# Altium footprint library Footprints.PcbLib: 77 footprints (part 4 of 5)
Each footprint in its own frame and in the unit in brackets; x right, y up, seen from the top. Pads: shape width x height; smd on the part's side, far side on the other; paste and mask are expansions set on the pad; w line width, h text height; cw(c..) or ccw(c..) is an arc to the next point about the centre after c.
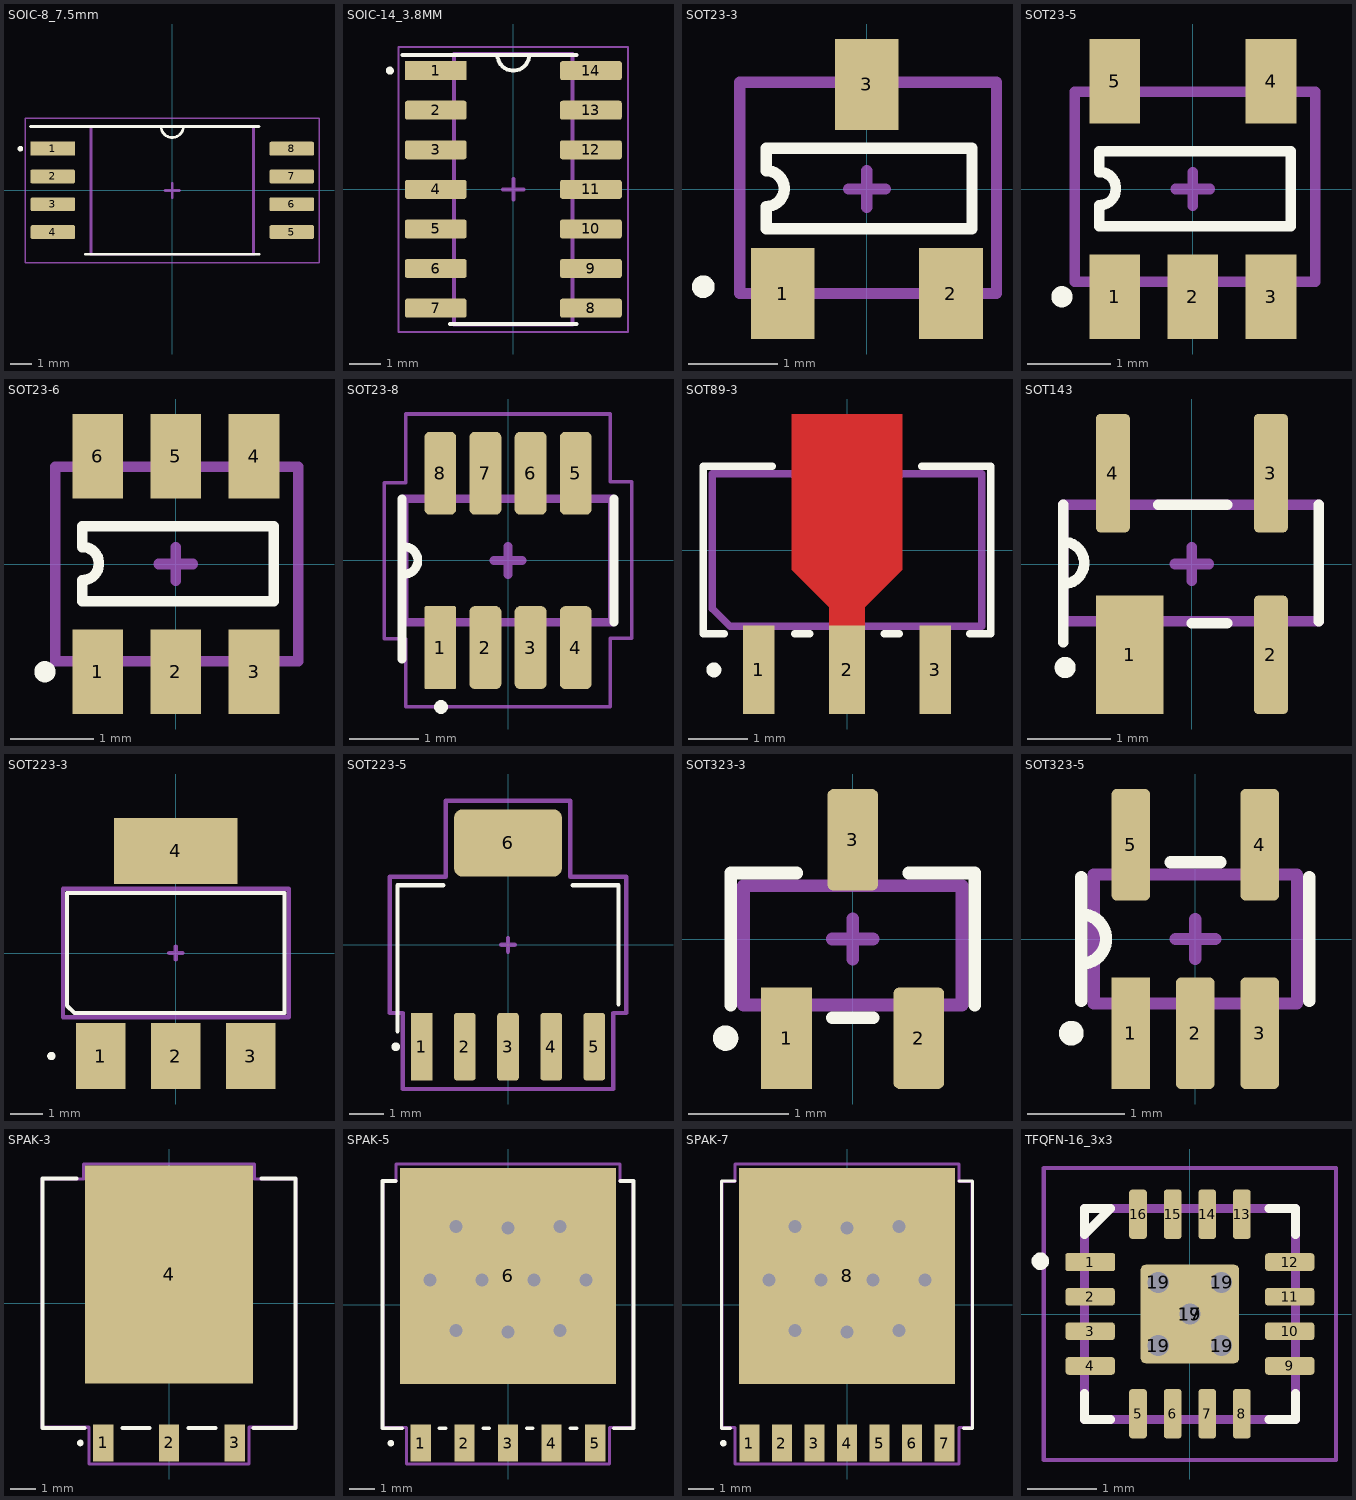
[diagram p3: the footprints below, top view; thin cyan lines are the x and y axes]

## SOIC-8_7.5mm [mil]
pads (9):
  rect 80x25 smd: 1(-215,75)
  rrect25% 80x25 smd: 2(-215,25) 3(-214.5,-25) 4(-214.5,-75) 5(215,-75) 6(215,-25) 7(215,25) 8(215,75)
  round 7.5 on Mech8: ""(-215,75)
Top Overlay:
  circle w5: c-273,75 r2.5
  lines w5: -255,115 156,115 ; -156,-115 156,-115 ; -20,115 ccw(c0,115) 20,115
Top Designator:
  text "'.Comment'" at -100,-45 h20
  text ".Designator" at -99.97,-6.66 h20
Top Assembly (Mech8):
  lines w5: -13,0 13,0 ; 0,-13 0,13 ; -146,-115 -146,115 146,115 146,-115 -146,-115
Top Courtyard:
  lines w2.5: -264,-130 -264,130 264,130 264,-130 -264,-130
3D body "AMC1100DWVR.STEP": height 110.74, standoff 0.5, extent -226.38,-115.16 226.38,115.16

## SOIC-14_3.8MM [mil]
pads (15):
  rect 78x24 smd: 1(-98,150)
  rrect25% 78x24 smd: 2(-98,100) 3(-98,50) 4(-98,0) 5(-98,-50) 6(-98,-100) 7(-98,-150) 8(98,-150) 9(98,-100) 10(98,-50) 11(98,0) 12(98,50) 13(98,100) 14(98,150)
  round 7.5 on Mech8: ""(-98,150)
Top Overlay:
  circle w5: c-156,150 r2.5
  lines w5: -140,170 80,170 ; -80,-170 80,-170 ; -20,170 ccw(c0,170) 20,170
Top Designator:
  text "'.Comment'" at -100,-45 h20
  text ".Designator" at -99.97,-6.66 h20
Top Assembly (Mech8):
  lines w5: -13,0 13,0 ; 0,-13 0,13 ; -75,-171 75,-171 75,171 -75,171 -75,-171
Top Courtyard:
  lines w2.5: -145,-180 145,-180 145,180 -145,180 -145,-180
3D body "TL064IDR.STEP": height 69.4, standoff 0.5, extent -118.11,-170.28 118.11,170.28

## SOT23-3 [mil]
pads (4):
  rect 28x40 smd: 1(-37,-46) 2(37,-46) 3(0,46)
  round 7.5 on Mech8: ""(-37,-46)
Top Overlay:
  circle w5: c-72,-43 r2.5
  lines w5: -44.28,-17.54 46.28,-17.54 46.28,17.9 -44.28,17.9 -44.28,8.06 cw(c-44.28,0.18) -44.28,-7.69 -44.28,-17.54
Top Designator:
  text "'.Designator'" at -49,12.16 h20
  text "'.Comment'" at -48,-39 h20
Top Assembly (Mech8):
  lines w5: -8,0 8,0 ; 0,-8 0,8 ; -56,-46 57,-46 57,47 -56,47 -56,-46
3D body "User Library-sot-3p290x130ll237h100.step": height 39.57, standoff 0, extent -57.09,-46.64 57.08,46.66

## SOT23-5 [mil] "SOT143-4 as used in SP0503BAHTG"
pads (6):
  rect 24x40 smd: 1(-37,-51) 2(0,-51) 3(37,-51) 4(37,51) 5(-37,51)
  round 7.5 on Mech8: ""(-37,-51)
Top Overlay:
  circle w5: c-62,-51 r2.5
  lines w5: -44.28,-17.54 46.28,-17.54 46.28,17.9 -44.28,17.9 -44.28,8.06 cw(c-44.28,0.18) -44.28,-7.69 -44.28,-17.54
Top Designator:
  text "'.Designator'" at -49.06,12.66 h20
  text "'.Comment'" at -49.06,-37.49 h20
Top Assembly (Mech8):
  lines w5: -8,0 8,0 ; 0,-8 0,8 ; -56,-44 58,-44 58,46 -56,46 -56,-44
3D body "SOT235.step": height 39.37, standoff 0, extent -56.48,-45.88 58.48,46.24

## SOT23-6 [mil] "SOT143-4 as used in SP0503BAHTG"
pads (7):
  rect 24x40 smd: 1(-37,-51) 2(0,-51) 3(37,-51) 4(37,51) 5(0,51) 6(-37,51)
  round 7.5 on Mech8: ""(-37,-51)
Top Overlay:
  circle w5: c-62,-51 r2.5
  lines w5: -44.28,-17.54 -44.28,-7.69 ccw(c-44.28,0.18) -44.28,8.06 -44.28,17.9 46.28,17.9 46.28,-17.54 -44.28,-17.54
Top Designator:
  text "'.Designator'" at -49.06,13.66 h20
  text "'.Comment'" at -49.06,-36.49 h20
Top Assembly (Mech8):
  lines w5: -8,0 8,0 ; 0,-8 0,8 ; -57,-46 58,-46 58,46 -57,46 -57,-46
3D body "SOT236.step": height 39.37, standoff 0, extent -57.48,-46.06 57.49,46.07

## SOT23-8 [mil]
pads (10):
  rrect10% 18x47 smd: 1(-38.39,-49.41)
  rrect33% 18x47 smd: 2(-12.8,-49.41) 3(12.8,-49.41) 4(38.39,-49.41) 5(38.39,49.41) 6(12.8,49.41) 7(-12.8,49.41) 8(-38.39,49.41)
  round 5 on Mech8: ""(-38.39,-49.41)
  round 8 on Top Overlay: ""(-38,-83)
Top Overlay:
  lines w5: -60,-56 -60,35 ; -59,-7.87 ccw(c-59,0) -59,7.87 ; 60,-35 60,35
Top Designator:
  text "'.Designator'" at -113.3,-8.33 h20
Top Assembly (Mech8):
  lines w5: -8,0 8,0 ; 0,-8 0,8 ; -59,-35 -59,35 59.06,35 59.06,-35 -59,-35
Top Courtyard:
  lines w2: -70,-44.49 -58,-44.49 -58,-83 58,-83 58,-44 70,-44 70,44.49 58,44.49 58,83 -58,83 -58,44 -70,44 -70,-44.49
3D body "SOT23-8.stp": height 47.44, standoff 0.8, extent -59.06,-55.82 59.06,55.82

## SOT89-3 [mil]
pads (4):
  rect 21x59 smd: 1(-59,-80) 3(59,-80)
  rect 24x59 smd: 2(0,-80)
  round 7.5 on Mech8: ""(-59,-80)
Top Layer:
  region: 12,-51 -12,-51 -12,-38 -37,-13 -37,91 37,91 37,-13 12,-38
Top Overlay:
  circle w5: c-89,-80 r2.5
  lines w5: -82,-56 -96,-56 -96,56 -50,56 ; -35,-56 -25,-56 ; 25,-56 35,-56 ; 50,56 96,56 96,-56 82,-56
Top Designator:
  text "'.Comment'" at -83.06,-43.49 h20
  text "'.Designator'" at -83.06,6.66 h20
Top Assembly (Mech8):
  lines w5: -68.36,-51 -49.36,-51 ; -11,-51 11,-51 ; -8,0 8,0 ; 0,-8 0,8 ; 49.36,-51 68.36,-51 ; -90,-39 -78,-51 90,-51 90,51 -90,51 -90,-39
3D body "SOT-89_STM.step": height 65.12, standoff 0, extent -90.51,-97.98 90.52,69.02

## SOT143 [mil]
height 40
pads (5):
  rect 32x56 smd: 1(-29.4,-43)
  rrect25% 16x56 smd: 2(37.4,-43) 3(37.4,43) 4(-37.4,43)
  round 7.5 on Mech8: ""(-29.4,-43)
Top Overlay:
  circle w5: c-60,-49 r2.5
  lines w5: -61,-37 -61,28 ; -61,-9.5 ccw(c-61,0.5) -61,10.5 ; -16,28 16.6,28 ; 0,-28 16.6,-28 ; 60,-27 60,28
Top Designator:
  text "'.Comment'" at -36,-64 h20
  text "'.Designator'" at -36,-10.34 h20
Top Assembly (Mech8):
  lines w5: -8,0 8,0 ; 0,-8 0,8 ; 60,-27 -61,-27 -61,28 60,28
3D body "SOT-143_M4_MCH.step": height 47.09, standoff 0, extent -60,-49.02 60,49.02

## SOT223-3 [mil]
pads (5):
  rect 60x80 smd: 1(-91,-125) 2(0,-125) 3(91,-125)
  rect 150x80 smd: 4(0,124)
  round 7.5 on Mech8: ""(-91,-125)
Top Overlay:
  circle w5: c-151,-125 r2.5
  lines w5: -132,-64 -123,-73 132,-73 132,73 -132,73 -132,-64
Top Designator:
  text "'.Comment'" at -122.06,-62.49 h20
  text "'.Designator'" at -122.06,-12.34 h20
Top Assembly (Mech8):
  lines w5: -8,0 8,0 ; 0,-8 0,8 ; -137,-78 137,-78 137,78 -137,78 -137,-78
3D body "SOT-223.STEP": height 70.87, standoff 0, extent -127.96,-138.41 127.95,137.8

## SOT223-5 [mil]
pads (7):
  rect 25x78 smd: 1(-100,-118)
  rrect25% 25x78 smd: 2(-50,-118) 3(0,-118) 4(50,-118) 5(100,-118)
  rrect25% 125x78 smd: 6(0,118)
  round 7.5 on Mech8: ""(-100,-118)
Top Overlay:
  circle w5: c-130,-118 r2.5
  lines w5: -128,-100 -128,69 -75,69 ; 75,69 128,69 128,-69
Top Designator:
  text "'.Designator'" at -121.06,-14.34 h20
  text "'.Comment'" at -121.06,-64.49 h20
Top Assembly (Mech8):
  lines w5: -8,0 8,0 ; 0,-8 0,8 ; -137,-79 -122,-79 -122,-167 122,-167 122,-79 137,-79 137,79 72,79 72,167 -72,167 -72,79 -137,79 -137,-79
3D body "TL1963A-33DCQR.STEP": height 70.66, standoff -0.21, extent -127.95,-138.97 127.96,138.99

## SOT323-3 [mil]
pads (4):
  rect 20x40 smd: 1(-26,-39)
  rrect25% 20x40 smd: 2(26,-39) 3(0,39)
  round 7.5 on Mech8: ""(-26,-39)
Top Overlay:
  circle w5: c-50,-39 r2.5
  lines w5: -48,-26 -48,26 -22,26 ; -8,-31 8,-31 ; 22,26 48,26 48,-26
Top Designator:
  text "'.Designator'" at -36,-10.34 h20
  text "'.Comment'" at -36,-64 h20
Top Assembly (Mech8):
  lines w5: -8,0 8,0 ; 0,-8 0,8 ; -43,-26 -43,21 43,21 43,-26 -43,-26
3D body "step_temp.STEP": height 43.1, standoff -0.21, extent -39.36,-41.33 39.38,41.35

## SOT323-5 [mil]
pads (6):
  rect 15.5x45 smd: 1(-26,-38)
  rrect25% 15.5x45 smd: 2(0,-38) 3(26,-38) 4(26,38) 5(-26,38)
  round 7.5 on Mech8: ""(-26,-38)
Top Overlay:
  circle w5: c-50,-38 r2.5
  lines w5: -46,-25 -46,25 ; -46,-10 ccw(c-46,0) -46,10 ; -10,31 10,31 ; 46,-25 46,25
Top Designator:
  text "'.Comment'" at -34,-66 h20
  text "'.Designator'" at -34,-9.34 h20
Top Assembly (Mech8):
  lines w5: -8,0 8,0 ; 0,-8 0,8 ; -41,-26 -41,26 41,26 41,-26 -41,-26
3D body "LMT87DCKT.STEP": height 43.1, standoff -0.21, extent -39.38,-41.33 39.36,41.35

## SPAK-3 [mil]
pads (5):
  rect 31x57 smd: 1(-100,-213) 2(0,-213) 3(100,-213)
  rect 256x332 smd: 4(0,44)
  round 7.5 on Mech8: ""(-100,-213)
Top Overlay:
  circle w5: c-135,-213 r2.5
  lines w6: -141,190 -193,190 -193,-190 -129,-190 ; -71,-190 -30,-190 ; 30,-190 71,-190 ; 129,-190 193,-190 193,190 141,190
Top Designator:
  text "'.Designator'" at -125.06,-122.34 h20
  text "'.Comment'" at -125.06,-172.49 h20
Top Assembly (Mech8):
  lines w5: -8,0 8,0 ; 0,-8 0,8 ; -193,-189 -193,189 -130,189 -130,212 130,212 130,189 193,189 193,-189 122,-189 122,-245 -122,-245 -122,-189 -193,-189
3D body "S-PAK-3_R_MCH.step": height 67.09, standoff -2.01, extent -187.48,-234.99 187.49,185.01

## SPAK-5 [mil]
pads (7):
  rect 31x57 smd: 1(-134,-213) 2(-67,-213) 3(0,-213) 4(67,-213) 5(134,-213)
  rect 332x332 smd: 6(0,44)
  round 7.5 on Mech8: ""(-134,-213)
via -120,38 diameter 40 hole 20
via 120,38 diameter 40 hole 20
via -40,38 diameter 40 hole 20
via 40,38 diameter 40 hole 20
via 0,-42 diameter 40 hole 20
via -80,-40 diameter 40 hole 20
via 80,-40 diameter 40 hole 20
via 0,118 diameter 40 hole 20
via -80,120 diameter 40 hole 20
via 80,120 diameter 40 hole 20
Top Overlay:
  circle w5: c-180,-213 r2.5
  lines w6: -173,190 -193,190 -193,-190 -163,-190 ; -105,-190 -96,-190 ; -38,-190 -29,-190 ; 29,-190 38,-190 ; 96,-190 105,-190 ; 163,-190 193,-190 193,190 173,190
Top Designator:
  text "'.Comment'" at -148.06,-175.49 h20
  text "'.Designator'" at -148.06,-125.34 h20
Top Assembly (Mech8):
  lines w5: -8,0 8,0 ; 0,-8 0,8 ; -192,-189 -156,-189 -156,-245 156,-245 156,-189 192,-189 192,189 172,189 172,216 -172,216 -172,189 -192,189 -192,-189
3D body "S-PAK-5_R_MCH.step": height 67.09, standoff -2.01, extent -187.47,-227.99 187.49,192

## SPAK-7 [mil]
pads (9):
  rect 31x57 smd: 1(-150,-213) 2(-100,-213) 3(-50,-213) 4(0,-213) 5(50,-213) 6(100,-213) 7(150,-213)
  rect 332x332 smd: 8(0,44)
  round 7.5 on Mech8: ""(-150,-213)
via 80,120 diameter 40 hole 20
via -80,120 diameter 40 hole 20
via 0,118 diameter 40 hole 20
via 80,-40 diameter 40 hole 20
via -80,-40 diameter 40 hole 20
via 0,-42 diameter 40 hole 20
via 40,38 diameter 40 hole 20
via -40,38 diameter 40 hole 20
via 120,38 diameter 40 hole 20
via -120,38 diameter 40 hole 20
Top Overlay:
  circle w5: c-190,-213 r2.5
  lines w5: -179,-190 -193,-190 -193,190 -172,190 ; 172,190 193,190 193,-190 179,-190
Top Designator:
  text "'.Designator'" at -164.06,-125.34 h20
  text "'.Comment'" at -164.06,-175.49 h20
Top Assembly (Mech8):
  lines w5: -8,0 8,0 ; 0,-8 0,8 ; -192,-189 -172,-189 -172,-245 172,-245 172,-189 192,-189 192,189 172,189 172,216 -172,216 -172,189 -192,189 -192,-189
3D body "S-PAK-7_R_MCH.step": height 67.09, standoff -2.01, extent -187.48,-234.99 187.49,185

## TFQFN-16_3x3 [mil]
height 37.01
pads (23):
  rrect15% 28x10 smd: 1(-56.69,29.53)
  rrect33% 28x10 smd: 2(-56.69,9.84) 3(-56.69,-9.84) 4(-56.69,-29.53) 9(56.69,-29.53) 10(56.69,-9.84) 11(56.69,9.84) 12(56.69,29.53)
  rrect33% 10x28 smd: 5(-29.53,-56.69) 6(-9.84,-56.69) 7(9.84,-56.69) 8(29.53,-56.69) 13(29.53,56.69) 14(9.84,56.69) 15(-9.84,56.69) 16(-29.53,56.69)
  rrect10% 56x56 smd paste-5: 17(0,0)
  round 20 hole 12 mask+0: 19(-18,-18) 19(-18,18) 19(0,0) 19(18,-18) 19(18,18)
  round 7.5 on Mech8: ""(-56.69,29.53)
Top Overlay:
  circle w5: c-85,30 r2.5
  lines w5: -60,-45 -60,-60 -45,-60 ; 45,-60 60,-60 60,-45 ; 45,60 60,60 60,45 ; -60,45 -45,60 -60,60 -60,45
Top Designator:
  text "'.Designator'" at -49.06,29.66 h20
  text "'.Comment'" at -49.06,-20.49 h20
Top Assembly (Mech8):
  lines w5: -8,0 8,0 ; 0,-8 0,8 ; -60,-60 60,-60 60,60 -60,60 -60,-60
Top Courtyard:
  lines w2.5: -83,-83 83,-83 83,83 -83,83 -83,-83
3D body "step_temp.STEP": height 29.53, standoff -1.97, extent -59.06,-59.06 59.06,59.06